# Altium schematic symbol library si1029x-t1-ge3.SchLib: 1 symbol
Pins are listed as number, name and electrical type; pins without a type are passive.

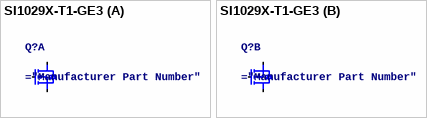
[diagram p0: symbol SI1029X-T1-GE3]

## SI1029X-T1-GE3
designator Q?
Small Signal Field-Effect Transistor, 0.305A I(D), 60V, 2-Element, N-Channel and P-Channel, Silicon, Metal-oxide Semiconductor FET
part A pins: 1, 2, 6
part B pins: 3, 4, 5